# Altium schematic symbol library SN74LVC2G17DBVR.SchLib: 1 symbol
Pins are listed as number, name and electrical type; pins without a type are passive.

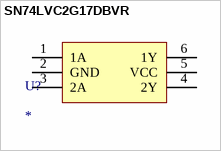
[diagram p0: symbol SN74LVC2G17DBVR]

## SN74LVC2G17DBVR
designator U?
footprint SN74LVC2G17DBVR
pins: 1 1A, 2 GND (power), 3 2A, 4 2Y, 5 VCC, 6 1Y